# EAGLE library part LM741 (library Richard_Experimental)
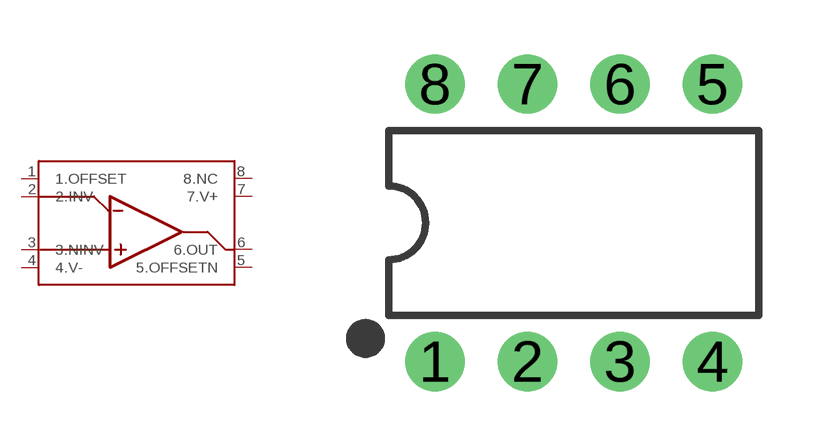
[diagram p2: symbol with the pads of DIP08; footprint DIP08]

Designator prefix -

## LM741  [DIP08]
1  1.OFFSET  pas
2  2.INV  pas
3  3.NINV  pas
4  4.V-  pas
5  5.OFFSETN  pas
6  6.OUT  pas
7  7.V+  pas
8  8.NC  pas

## Footprint DIP08 (pad centres in mm)
Dual In Line Package
drill 0.813 pad 1.626: 1 -3.81,-3.81; 2 -1.27,-3.81; 3 1.27,-3.81; 4 3.81,-3.81; 5 3.81,3.81; 6 1.27,3.81; 7 -1.27,3.81; 8 -3.81,3.81